# Altium footprint library SensWearComponents.PcbLib: 56 footprints (part 3 of 4)
Each footprint in its own frame and in the unit in brackets; x right, y up, seen from the top. Pads: shape width x height; smd on the part's side, far side on the other; paste and mask are expansions set on the pad; w line width, h text height; cw(c..) or ccw(c..) is an arc to the next point about the centre after c.
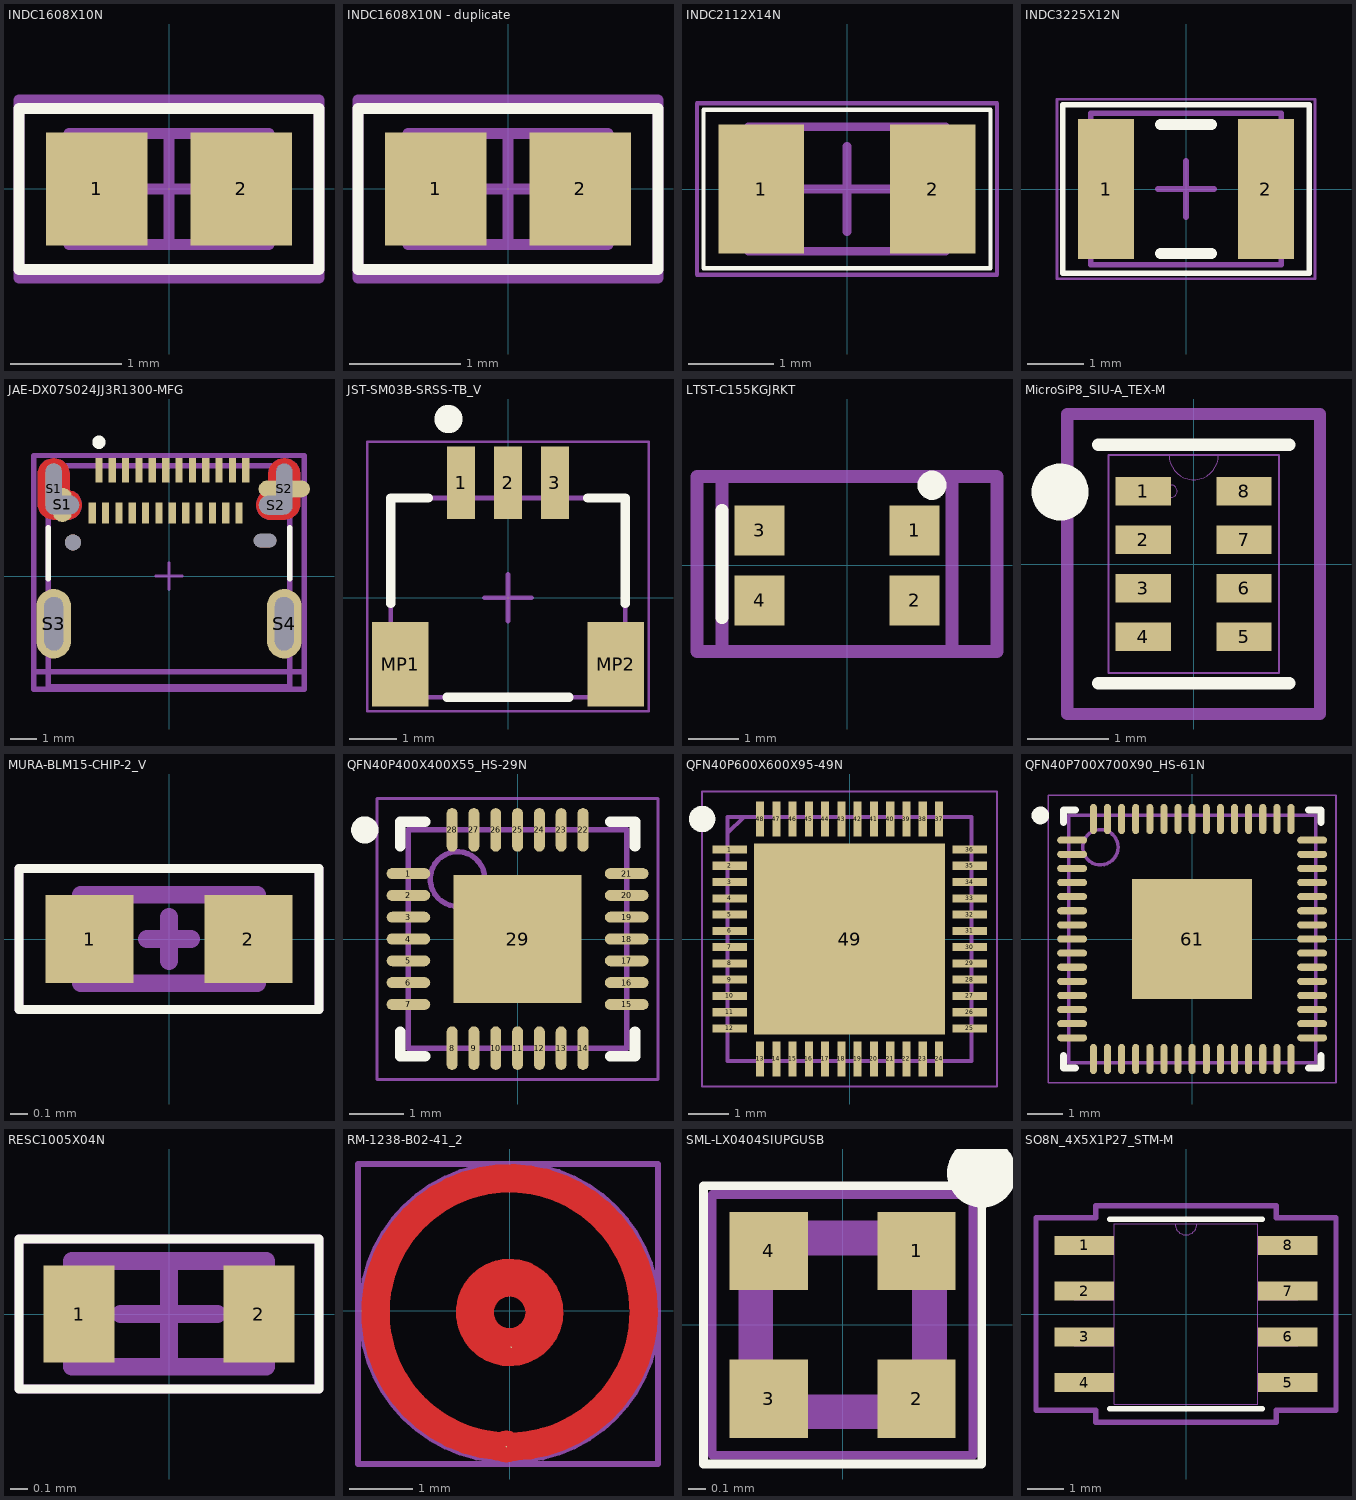
[diagram p2: the footprints below, top view; thin cyan lines are the x and y axes]

## INDC1608X10N [mm] "Chip Inductor, 2-Leads, Body 1.60x0.80mm, IPC Medium Density"
height 1
pads (2):
  rect 0.91x1.02 smd: 1(-0.65,0) 2(0.65,0)
Top Overlay:
  lines w0.1: -1.35,-0.725 -1.35,0.725 1.35,0.725 1.35,-0.725 -1.35,-0.725
Top Assembly:
  lines w0.1: -0.5,0 0.5,0 ; 0,-0.5 0,0.5 ; -1.35,-0.8 1.35,-0.8 1.35,0.8 -1.35,0.8 -1.35,-0.8
Top 3D Body:
  lines w0.1: -0.9,-0.5 -0.9,0.5 0.9,0.5 0.9,-0.5 -0.9,-0.5
Top Courtyard:
  lines w0.1: -1.35,-0.8 1.35,-0.8 1.35,0.8 -1.35,0.8 -1.35,-0.8
  text ".Designator" at -0.425,-0.225 h0.5
3D body "INDC1608X10N.step": height 1, standoff 0, extent -0.9,-0.5 0.9,0.5

## INDC1608X10N - duplicate [mm] "Chip Inductor, 2-Leads, Body 1.60x0.80mm, IPC Medium Density"
height 1
pads (2):
  rect 0.91x1.02 smd: 1(-0.65,0) 2(0.65,0)
Top Overlay:
  lines w0.1: -1.35,-0.725 -1.35,0.725 1.35,0.725 1.35,-0.725 -1.35,-0.725
Top Assembly:
  lines w0.1: -0.5,0 0.5,0 ; 0,-0.5 0,0.5 ; -1.35,-0.8 1.35,-0.8 1.35,0.8 -1.35,0.8 -1.35,-0.8
Top 3D Body:
  lines w0.1: -0.9,-0.5 -0.9,0.5 0.9,0.5 0.9,-0.5 -0.9,-0.5
Top Courtyard:
  lines w0.1: -1.35,-0.8 1.35,-0.8 1.35,0.8 -1.35,0.8 -1.35,-0.8
  text ".Designator" at -0.425,-0.225 h0.5
3D body "INDC1608X10N.step": height 1, standoff 0, extent -0.9,-0.5 0.9,0.5

## INDC2112X14N [mm] "Chip Inductor, 2-Leads, Body 2.10x1.25mm, IPC Medium Density"
height 1.45
pads (2):
  rect 1x1.5 smd: 1(-1,0) 2(1,0)
Top Overlay:
  lines w0.05: -1.675,-0.925 -1.675,0.925 1.675,0.925 1.675,-0.925 -1.675,-0.925
Top Assembly:
  lines w0.05: -1.75,-1 1.75,-1 1.75,1 -1.75,1 -1.75,-1
  lines w0.1: -0.5,0 0.5,0 ; 0,-0.5 0,0.5
Top 3D Body:
  lines w0.1: -1.15,-0.725 -1.15,0.725 1.15,0.725 1.15,-0.725 -1.15,-0.725
Top Courtyard:
  lines w0.05: -1.75,-1 1.75,-1 1.75,1 -1.75,1 -1.75,-1
  text ".Designator" at -0.425,-0.2 h0.4
3D body: height 1.45, standoff 0, extent -0.7,-0.725 0.7,0.725
3D body: height 1.45, standoff 0, extent -1.15,-0.725 -0.7,0.725
3D body: height 1.45, standoff 0, extent 0.7,-0.725 1.15,0.725

## INDC3225X12N [mm] "Chip Inductor, 2-Leads, Body 3.20x2.50mm, IPC Medium Density"
height 1.2
pads (2):
  rect 1x2.5 smd: 1(-1.425,0) 2(1.425,0)
Top Overlay:
  lines w0.1: -2.2,-1.5 -2.2,1.5 2.2,1.5 2.2,-1.5 -2.2,-1.5
  lines w0.2: -0.45,-1.15 0.45,-1.15 ; -0.45,1.15 0.45,1.15
Top Assembly:
  lines w0.05: -2.3,-1.6 -2.3,1.6 2.3,1.6 2.3,-1.6 -2.3,-1.6
  lines w0.1: -0.5,0 0.5,0 ; 0,-0.5 0,0.5
Top 3D Body:
  lines w0.1: -1.7,-1.35 -1.7,1.35 1.7,1.35 1.7,-1.35 -1.7,-1.35
Top Courtyard:
  lines w0.05: -2.3,-1.6 2.3,-1.6 2.3,1.6 -2.3,1.6 -2.3,-1.6
  text ".Designator" at -0.1,-0.1 h1
3D body "INDC3225X12N.step": height 1.2, standoff 0, extent -1.7,-1.35 1.7,1.35

## JAE-DX07S024JJ3R1300-MFG [mm]
pads (32):
  rect 0.27x0.9 smd paste+0 mask+0: A1(-2.625,3.965) A2(-2.125,3.965) A3(-1.625,3.965) A4(-1.125,3.965) A5(-0.625,3.965) A6(-0.125,3.965) A7(0.375,3.965) A8(0.875,3.965) A9(1.375,3.965) A10(1.875,3.965) A11(2.375,3.965) A12(2.875,3.965)
  rect 0.27x0.8 smd paste+0 mask+0: B1(2.625,2.365) B2(2.125,2.365) B3(1.625,2.365) B4(1.125,2.365) B5(0.625,2.365) B6(0.125,2.365) B7(-0.375,2.365) B8(-0.875,2.365) B9(-1.375,2.365) B10(-1.875,2.365) B11(-2.375,2.365) B12(-2.875,2.365)
  rrect100% 0.6x1.9 hole 1.9 slot 0.6 at 0 deg paste-2539.97 mask+0: S1(-4.32,3.265)
  oval 0.725x1.275 hole 0.7 slot 1.25 at 0 deg paste-2539.97 mask+0: S1(-3.995,2.665)
  rrect100% 1.25x0.7 hole 0.7 slot 1.25 at 0 deg paste-2539.97 mask+0: S2(3.995,2.655)
  oval 1.925x0.625 hole 1.9 slot 0.6 at 0 deg paste-2539.97 mask+0: S2(4.32,3.265)
  rrect100% 1.3x2.6 hole 2 slot 0.7 at 0 deg paste-2539.97 mask+0: S3(-4.32,-1.785) S4(4.32,-1.785)
  round 0.6 hole 0.6 unplated paste-2539.97 mask+0: ""(-3.6,1.265)
  rrect100% 0.85x0.5 hole 0.5 slot 0.85 at 0 deg unplated paste-2539.97 mask+0: ""(3.6,1.33)
Top Layer:
  region: -4.32,2.115 -3.7,2.115 -3.655,2.125 -3.568,2.16 -3.489,2.21 -3.42,2.271 -3.362,2.344 -3.316,2.426 -3.285,2.513 -3.27,2.605 -3.27,2.652 -3.27,2.653 -3.27,2.657 -3.27,2.66 -3.27,2.663 -3.27,2.665 -3.269,2.713 -3.285,2.809 -3.316,2.9 -3.364,2.985 -3.425,3.06 -3.498,3.123 -3.582,3.172 -3.672,3.206 -3.72,3.215 -3.72,3.815 -3.72,3.854 -3.73,3.932 -3.751,4.008 -3.781,4.081 -3.82,4.149 -3.868,4.211 -3.924,4.267 -3.986,4.315 -4.054,4.354 -4.127,4.384 -4.203,4.405 -4.281,4.415 -4.32,4.415 -4.359,4.415 -4.437,4.405 -4.513,4.384 -4.586,4.354 -4.654,4.315 -4.716,4.267 -4.772,4.211 -4.82,4.149 -4.859,4.081 -4.889,4.008 -4.91,3.932 -4.92,3.854 -4.92,3.815 -4.92,2.715 -4.92,2.676 -4.91,2.598 -4.889,2.522 -4.859,2.449 -4.82,2.381 -4.772,2.319 -4.716,2.263 -4.654,2.215 -4.586,2.176 -4.513,2.146 -4.437,2.125 -4.359,2.115
  region: 3.27,2.652 3.27,2.605 3.285,2.513 3.316,2.426 3.362,2.344 3.42,2.271 3.489,2.21 3.568,2.16 3.655,2.125 3.7,2.115 4.32,2.115 4.359,2.115 4.437,2.125 4.513,2.146 4.586,2.176 4.654,2.215 4.716,2.263 4.772,2.319 4.82,2.381 4.859,2.449 4.889,2.522 4.91,2.598 4.92,2.676 4.92,2.715 4.92,3.815 4.92,3.862 4.905,3.955 4.876,4.045 4.833,4.129 4.778,4.206 4.711,4.273 4.634,4.328 4.55,4.371 4.46,4.4 4.367,4.415 4.273,4.415 4.18,4.4 4.09,4.371 4.006,4.328 3.929,4.273 3.862,4.206 3.807,4.129 3.764,4.045 3.735,3.955 3.72,3.862 3.72,3.815 3.72,3.215 3.672,3.206 3.582,3.172 3.498,3.123 3.425,3.06 3.364,2.985 3.316,2.9 3.285,2.809 3.269,2.713 3.27,2.665 3.27,2.663 3.27,2.66 3.27,2.657 3.27,2.653
Bottom Layer:
  region: -4.32,2.115 -3.7,2.115 -3.655,2.125 -3.568,2.16 -3.489,2.21 -3.42,2.271 -3.362,2.344 -3.316,2.426 -3.285,2.513 -3.27,2.605 -3.27,2.652 -3.27,2.653 -3.27,2.657 -3.27,2.66 -3.27,2.663 -3.27,2.665 -3.269,2.713 -3.285,2.809 -3.316,2.9 -3.364,2.985 -3.425,3.06 -3.498,3.123 -3.582,3.172 -3.672,3.206 -3.72,3.215 -3.72,3.815 -3.72,3.854 -3.73,3.932 -3.751,4.008 -3.781,4.081 -3.82,4.149 -3.868,4.211 -3.924,4.267 -3.986,4.315 -4.054,4.354 -4.127,4.384 -4.203,4.405 -4.281,4.415 -4.32,4.415 -4.359,4.415 -4.437,4.405 -4.513,4.384 -4.586,4.354 -4.654,4.315 -4.716,4.267 -4.772,4.211 -4.82,4.149 -4.859,4.081 -4.889,4.008 -4.91,3.932 -4.92,3.854 -4.92,3.815 -4.92,2.715 -4.92,2.676 -4.91,2.598 -4.889,2.522 -4.859,2.449 -4.82,2.381 -4.772,2.319 -4.716,2.263 -4.654,2.215 -4.586,2.176 -4.513,2.146 -4.437,2.125 -4.359,2.115
  region: 3.27,2.652 3.27,2.605 3.285,2.513 3.316,2.426 3.362,2.344 3.42,2.271 3.489,2.21 3.568,2.16 3.655,2.125 3.7,2.115 4.32,2.115 4.359,2.115 4.437,2.125 4.513,2.146 4.586,2.176 4.654,2.215 4.716,2.263 4.772,2.319 4.82,2.381 4.859,2.449 4.889,2.522 4.91,2.598 4.92,2.676 4.92,2.715 4.92,3.815 4.92,3.862 4.905,3.955 4.876,4.045 4.833,4.129 4.778,4.206 4.711,4.273 4.634,4.328 4.55,4.371 4.46,4.4 4.367,4.415 4.273,4.415 4.18,4.4 4.09,4.371 4.006,4.328 3.929,4.273 3.862,4.206 3.807,4.129 3.764,4.045 3.735,3.955 3.72,3.862 3.72,3.815 3.72,3.215 3.672,3.206 3.582,3.172 3.498,3.123 3.425,3.06 3.364,2.985 3.316,2.9 3.285,2.809 3.269,2.713 3.27,2.665 3.27,2.663 3.27,2.66 3.27,2.657 3.27,2.653
Top Overlay:
  circle w0.25: c-2.625,5.015 r0.125
  lines w0.2: -4.52,-0.11 -4.52,1.805 ; 4.52,-0.11 4.52,1.805
Mechanical 7:
  lines w0.2: -5.07,-4.235 -5.07,4.515 5.07,4.515 5.07,-4.235 -5.07,-4.235
Mechanical 9:
  lines w0.2: -5.07,-4.235 -5.07,4.515 5.07,4.515 5.07,-4.235 -5.07,-4.235
  text ".Designator" at 0.101,0.233 h0.5
Mechanical 10:
  lines w0.1: -0.5,0 0.5,0 ; 0,-0.5 0,0.5
Mechanical 13:
  lines w0.2: -5.07,-3.585 5.07,-3.585 ; -4.52,-4.135 -4.52,4.135 4.52,4.135 4.52,-4.135 -4.52,-4.135
3D body "Conn_JAE_Electronics_DX07S024JJ3R1300_eec.STEP": height 3.29, standoff -0.75, extent -4.47,-4.085 4.47,4.085

## JST-SM03B-SRSS-TB_V [mm] "SMD, 3-Leads, Body 5x4.25mm, Pitch 1mm"
height 2.9
pads (5):
  rect 0.6x1.55 smd: 1(-1,2.45) 2(0,2.45) 3(1,2.45)
  rect 1.2x1.8 smd: MP1(-2.3,-1.425) MP2(2.3,-1.425)
Top Overlay:
  circle w0.5: c-1.27,3.81 r0.05
  lines w0.2: -2.5,-0.125 -2.5,2.125 -1.7,2.125 ; -1.3,-2.125 1.3,-2.125 ; 1.7,2.125 2.5,2.125 2.5,-0.125
Mechanical 13:
  lines w0.1: -2.5,-2.125 -2.5,2.125 2.5,2.125 2.5,-2.125 -2.5,-2.125
Mechanical 15:
  lines w0.05: -3,-2.425 -3,3.325 3,3.325 3,-2.425 -3,-2.425
  lines w0.1: -0.5,0 0.5,0 ; 0,-0.5 0,0.5
3D body "SM03B-SRSS.stp": height 3.25, standoff 0.3, extent -2.5,-2.125 2.5,2.825

## LTST-C155KGJRKT [mm]
pads (4):
  rect 1x1 smd: 1(1.35,0.7) 2(1.35,-0.7) 3(-1.75,0.7) 4(-1.75,-0.7)
Top Overlay:
  circle w0.3: c1.7,1.6 r0.141
  lines w0.254: -2.5,-1.05 -2.5,1.1
Mechanical 15:
  lines w0.254: -2.5,-1.725 -2.5,1.775 2.1,1.775 2.1,-1.725 -2.5,-1.725
Mechanical 29:
  lines w0.254: -3,-1.725 3,-1.725 3,1.775 -3,1.775 -3,-1.725
  text ".Designator" at -2.575,-0.239 h0.7
3D body "LTST-C155KGJRKT.STEP": height 1.1, standoff 0, extent -1.775,-1.3 1.425,1.4

## MicroSiP8_SIU-A_TEX-M [mm]
pads (8):
  rect 0.684x0.355 smd paste+0 mask+0: 1(-0.622,0.9) 2(-0.622,0.3) 3(-0.622,-0.3) 4(-0.622,-0.9) 5(0.622,-0.9) 6(0.622,-0.3) 7(0.622,0.3) 8(0.622,0.9)
Top Overlay:
  circle w0.5: c-1.651,0.889 r0.102
  lines w0.152: -1.181,-1.473 1.181,-1.473 ; -1.181,1.473 1.181,1.473
Top Assembly:
  lines w0.152: -1.562,-1.854 -1.562,-1.585 -1.562,1.585 -1.562,1.854 1.562,1.854 1.562,1.585 1.562,-1.585 1.562,-1.854 -1.562,-1.854
Top 3D Body:
  circle w0: c-0.28,0.9 r0.076
  lines w0: -0.305,1.346 ccw(c0,1.346) 0.305,1.346
  lines w0.025: -1.054,-1.346 1.054,-1.346 1.054,1.346 -1.054,1.346 -1.054,-1.346
Top Courtyard:
  text ".Designator" at -2.999,-0.2 h0.6
3D body "MicroSiP8_SIU-A_TEX.step": height 1.2, standoff 0, extent -1.054,-1.346 1.054,1.346

## MURA-BLM15-CHIP-2_V [mm] "Chip Ferrite Bead, 2-Leads, Body 1x0.5mm"
height 0.55
pads (2):
  rect 0.5x0.5 smd: 1(-0.45,0) 2(0.45,0)
Top Overlay:
  lines w0.05: -0.85,-0.4 0.85,-0.4 0.85,0.4 -0.85,0.4 -0.85,-0.4
Mechanical 13:
  lines w0.1: -0.5,-0.25 0.5,-0.25 0.5,0.25 -0.5,0.25 -0.5,-0.25
Mechanical 15:
  lines w0.05: -0.85,-0.4 0.85,-0.4 0.85,0.4 -0.85,0.4 -0.85,-0.4
  lines w0.1: -0.125,0 0.125,0 ; 0,-0.125 0,0.125
Mechanical 29:
  lines w0.05: -0.85,-0.4 0.85,-0.4 0.85,0.4 -0.85,0.4 -0.85,-0.4
  text ".Designator" at -0.65,-0.142 h0.4
3D body "RESC1005X06L.step": height 0.55, standoff 0, extent -0.525,-0.275 0.525,0.275

## QFN40P400X400X55_HS-29N [mm] "QFN, 28-Leads, Body 4.00x4.00mm, Pitch 0.40mm, Thermal Pad 2.35x2.35mm, IPC Medium Density"
height 0.55
pads (29):
  oval 0.8x0.2 smd: 1(-2,1.2) 2(-2,0.8) 3(-2,0.4) 4(-2,0) 5(-2,-0.4) 6(-2,-0.8) 7(-2,-1.2) 15(2,-1.2) 16(2,-0.8) 17(2,-0.4) 18(2,0) 19(2,0.4) 20(2,0.8) 21(2,1.2)
  oval 0.2x0.8 smd: 8(-1.2,-2) 9(-0.8,-2) 10(-0.4,-2) 11(0,-2) 12(0.4,-2) 13(0.8,-2) 14(1.2,-2) 22(1.2,2) 23(0.8,2) 24(0.4,2) 25(0,2) 26(-0.4,2) 27(-0.8,2) 28(-1.2,2)
  rect 2.35x2.35 smd: 29(0,0)
Top Overlay:
  circle w0.25: c-2.8,2 r0.125
  lines w0.2: -2.15,-1.7 -2.15,-2.15 -1.7,-2.15 ; -2.15,1.7 -2.15,2.15 -1.7,2.15 ; 1.7,-2.15 2.15,-2.15 2.15,-1.7 ; 1.7,2.15 2.15,2.15 2.15,1.7
Top Assembly:
  circle w0.1: c-1.1,1.1 r0.5
  lines w0.1: -2,-2 2,-2 2,2 -2,2 -2,-2
Top Courtyard:
  lines w0.05: -2.575,-2.575 2.575,-2.575 2.575,2.575 -2.575,2.575 -2.575,-2.575
  lines w0.1: -0.5,0 0.5,0 ; 0,-0.5 0,0.5
3D body "QFN40P400X400X55_HS-29N.step": height 0.55, standoff 0, extent -2.01,-2.01 2.01,2.01

## QFN40P600X600X95-49N [mm]
pads (49):
  rect 0.85x0.2 smd: 1(-2.95,2.2) 2(-2.95,1.8) 3(-2.95,1.4) 4(-2.95,1) 5(-2.95,0.6) 6(-2.95,0.2) 7(-2.95,-0.2) 8(-2.95,-0.6) 9(-2.95,-1) 10(-2.95,-1.4) 11(-2.95,-1.8) 12(-2.95,-2.2) 25(2.95,-2.2) 26(2.95,-1.8) 27(2.95,-1.4) 28(2.95,-1) 29(2.95,-0.6) 30(2.95,-0.2) 31(2.95,0.2) 32(2.95,0.6) 33(2.95,1) 34(2.95,1.4) 35(2.95,1.8) 36(2.95,2.2)
  rect 0.2x0.85 smd: 13(-2.2,-2.95) 14(-1.8,-2.95) 15(-1.4,-2.95) 16(-1,-2.95) 17(-0.6,-2.95) 18(-0.2,-2.95) 19(0.2,-2.95) 20(0.6,-2.95) 21(1,-2.95) 22(1.4,-2.95) 23(1.8,-2.95) 24(2.2,-2.95) 37(2.2,2.95) 38(1.8,2.95) 39(1.4,2.95) 40(1,2.95) 41(0.6,2.95) 42(0.2,2.95) 43(-0.2,2.95) 44(-0.6,2.95) 45(-1,2.95) 46(-1.4,2.95) 47(-1.8,2.95) 48(-2.2,2.95)
  rect 4.7x4.7 smd paste-400: 49(0,0)
Top Overlay:
  circle w0.4: c-3.625,2.95 r0.125
Top Paste:
  region: -2.2,2.2 -0.8,2.2 -0.8,0.8 -2.2,0.8
  region: -0.7,2.2 0.7,2.2 0.7,0.8 -0.7,0.8
  region: 0.8,2.2 2.2,2.2 2.2,0.8 0.8,0.8
  region: -2.2,0.7 -0.8,0.7 -0.8,-0.7 -2.2,-0.7
  region: -0.7,0.7 0.7,0.7 0.7,-0.7 -0.7,-0.7
  region: 0.8,0.7 2.2,0.7 2.2,-0.7 0.8,-0.7
  region: -2.2,-0.8 -0.8,-0.8 -0.8,-2.2 -2.2,-2.2
  region: -0.7,-0.8 0.7,-0.8 0.7,-2.2 -0.7,-2.2
  region: 0.8,-0.8 2.2,-0.8 2.2,-2.2 0.8,-2.2
Top Assembly:
  lines w0.05: -3.625,-3.625 -3.625,3.625 3.625,3.625 3.625,-3.625 -3.625,-3.625
Top 3D Body:
  lines w0.1: -3,2.6 -2.6,3 ; -3,-3 -3,3 3,3 3,-3 -3,-3
Top Courtyard:
  text ".Designator" at -3.499,-0.233 h0.7
3D body "NRF54L15-QFAA-R.stp": height 0.95, standoff 0, extent -3.05,-3.05 3.05,3.05

## QFN40P700X700X90_HS-61N [mm] "QFN, 60-Leads, Body 7.00x7.00mm, Pitch 0.40mm, Thermal Pad 3.40x3.40mm, IPC Medium Density"
height 0.9
pads (61):
  oval 0.85x0.2 smd: 1(-3.4,2.8) 2(-3.4,2.4) 3(-3.4,2) 4(-3.4,1.6) 5(-3.4,1.2) 6(-3.4,0.8) 7(-3.4,0.4) 8(-3.4,0) 9(-3.4,-0.4) 10(-3.4,-0.8) 11(-3.4,-1.2) 12(-3.4,-1.6) 13(-3.4,-2) 14(-3.4,-2.4) 15(-3.4,-2.8) 31(3.4,-2.8) 32(3.4,-2.4) 33(3.4,-2) 34(3.4,-1.6) 35(3.4,-1.2) 36(3.4,-0.8) 37(3.4,-0.4) 38(3.4,0) 39(3.4,0.4) 40(3.4,0.8) 41(3.4,1.2) 42(3.4,1.6) 43(3.4,2) 44(3.4,2.4) 45(3.4,2.8)
  oval 0.2x0.85 smd: 16(-2.8,-3.4) 17(-2.4,-3.4) 18(-2,-3.4) 19(-1.6,-3.4) 20(-1.2,-3.4) 21(-0.8,-3.4) 22(-0.4,-3.4) 23(0,-3.4) 24(0.4,-3.4) 25(0.8,-3.4) 26(1.2,-3.4) 27(1.6,-3.4) 28(2,-3.4) 29(2.4,-3.4) 30(2.8,-3.4) 46(2.8,3.4) 47(2.4,3.4) 48(2,3.4) 49(1.6,3.4) 50(1.2,3.4) 51(0.8,3.4) 52(0.4,3.4) 53(0,3.4) 54(-0.4,3.4) 55(-0.8,3.4) 56(-1.2,3.4) 57(-1.6,3.4) 58(-2,3.4) 59(-2.4,3.4) 60(-2.8,3.4)
  rect 3.4x3.4 smd: 61(0,0)
Top Overlay:
  circle w0.25: c-4.3,3.5 r0.125
  lines w0.2: -3.65,-3.3 -3.65,-3.65 -3.3,-3.65 ; -3.65,3.3 -3.65,3.65 -3.3,3.65 ; 3.3,-3.65 3.65,-3.65 3.65,-3.3 ; 3.3,3.65 3.65,3.65 3.65,3.3
Top Assembly:
  circle w0.1: c-2.6,2.6 r0.5
  lines w0.1: -3.5,-3.5 3.5,-3.5 3.5,3.5 -3.5,3.5 -3.5,-3.5
Top Courtyard:
  lines w0.05: -4.075,-4.075 4.075,-4.075 4.075,4.075 -4.075,4.075 -4.075,-4.075
  lines w0.1: -0.5,0 0.5,0 ; 0,-0.5 0,0.5
3D body "QFN40P700X700X90_HS-61N.step": height 0.9, standoff 0, extent -3.51,-3.51 3.51,3.51

## RESC1005X04N [mm] "Chip Resistor, 2-Leads, Body 1.00x0.50mm, IPC Medium Density"
height 0.4
pads (2):
  rect 0.4x0.55 smd: 1(-0.51,0) 2(0.51,0)
Top Overlay:
  lines w0.05: -0.85,-0.425 0.85,-0.425 0.85,0.425 -0.85,0.425 -0.85,-0.425
Mechanical 13:
  lines w0.1: -0.55,-0.3 -0.55,0.3 0.55,0.3 0.55,-0.3 -0.55,-0.3
Mechanical 15:
  lines w0.05: -0.85,-0.425 -0.85,0.425 0.85,0.425 0.85,-0.425 -0.85,-0.425
  lines w0.1: -0.275,0 0.275,0 ; 0,-0.275 0,0.275
Mechanical 29:
  lines w0.05: -0.85,-0.425 -0.85,0.425 0.85,0.425 0.85,-0.425 -0.85,-0.425
  text ".Designator" at -0.799,-0.121 h0.5
3D body "RESC1005X06N.step": height 0.6, standoff 0, extent -0.55,-0.3 0.55,0.3

## RM-1238-B02-41_2 [mm]
pads (2):
  round 0.025 smd: 1(0.025,-0.575) 2(-0.05,-2.15)
Top Layer:
  circle w0.45: c0,-0.025 r2.125
  circle w0.6: c0,-0.025 r0.55
  region: -0.05,-2.4 -0.075,-2.4 -0.123,-2.39 -0.168,-2.372 -0.209,-2.344 -0.244,-2.309 -0.272,-2.268 -0.29,-2.223 -0.3,-2.175 -0.3,-2.15 -0.3,-2.125 -0.29,-2.077 -0.272,-2.032 -0.244,-1.991 -0.209,-1.956 -0.168,-1.928 -0.123,-1.91 -0.075,-1.9 -0.05,-1.9 -0.025,-1.9 0.023,-1.91 0.068,-1.928 0.109,-1.956 0.144,-1.991 0.172,-2.032 0.19,-2.077 0.2,-2.125 0.2,-2.15 0.2,-2.175 0.19,-2.223 0.172,-2.268 0.144,-2.309 0.109,-2.344 0.068,-2.372 0.023,-2.39 -0.025,-2.4
  region: 0.025,-0.825 0,-0.825 -0.048,-0.815 -0.093,-0.797 -0.134,-0.769 -0.169,-0.734 -0.197,-0.693 -0.215,-0.648 -0.225,-0.6 -0.225,-0.575 -0.225,-0.55 -0.215,-0.502 -0.197,-0.457 -0.169,-0.416 -0.134,-0.381 -0.093,-0.353 -0.048,-0.335 0,-0.325 0.025,-0.325 0.05,-0.325 0.098,-0.335 0.143,-0.353 0.184,-0.381 0.219,-0.416 0.247,-0.457 0.265,-0.502 0.275,-0.55 0.275,-0.575 0.275,-0.6 0.265,-0.648 0.247,-0.693 0.219,-0.734 0.184,-0.769 0.143,-0.797 0.098,-0.815 0.05,-0.825
Top Assembly:
  circle w0.1: c0,-0.025 r2.35
Mechanical 29:
  lines w0.1: -2.4,-2.425 2.35,-2.425 2.35,2.325 -2.4,2.325 -2.4,-2.425
3D body: height 1.5, standoff 0, extent -2.25,-2.275 2.25,2.225

## SML-LX0404SIUPGUSB [mm]
pads (4):
  rect 0.45x0.45 smd: 1(0.425,0.425) 2(0.425,-0.425) 3(-0.425,-0.425) 4(-0.425,0.425)
Top Overlay:
  circle w0.3: c0.8,0.875 r0.05
  lines w0.05: -0.8,-0.8 -0.8,0.8 0.8,0.8 0.8,-0.8 -0.8,-0.8
Top Assembly:
  lines w0.05: -0.75,-0.75 0.75,-0.75 0.75,0.75 -0.75,0.75 -0.75,-0.75
Top 3D Body:
  lines w0.2: -0.5,-0.5 0.5,-0.5 0.5,0.5 -0.5,0.5 -0.5,-0.5
Top Courtyard:
  lines w0.05: -0.75,-0.75 0.75,-0.75 0.75,0.75 -0.75,0.75 -0.75,-0.75
  text ".Designator" at -0.375,-0.175 h0.4
3D body "SML-LX0404SIUPGUSB.stp": height 0.26, standoff 0, extent -0.5,-0.5 0.5,0.5

## SO8N_4X5X1P27_STM-M [mil]
pads (8):
  rect 65.5x21 smd paste+0 mask+0: 1(-111.25,75) 2(-111.25,25) 3(-111.25,-25) 4(-111.25,-75) 5(111.25,-75) 6(111.25,-25) 7(111.25,25) 8(111.25,75)
Top Overlay:
  lines w6: -83.5,-103.5 83.5,-103.5 ; -83.5,103.5 83.5,103.5
Top Assembly:
  lines w6: -164,-105.5 -98.5,-105.5 -98.5,-118.5 98.5,-118.5 98.5,-105.5 164,-105.5 164,105.5 98.5,105.5 98.5,118.5 -98.5,118.5 -98.5,105.5 -164,105.5 -164,-105.5
Top 3D Body:
  lines w1: -12,98.5 ccw(c0,98.5) 12,98.5 ; -122,-84.5 -78.5,-84.5 -78.5,-65.5 -122,-65.5 -122,-84.5 ; -122,-34.5 -78.5,-34.5 -78.5,-15.5 -122,-15.5 -122,-34.5 ; -122,15.5 -78.5,15.5 -78.5,34.5 -122,34.5 -122,15.5 ; -122,65.5 -78.5,65.5 -78.5,84.5 -122,84.5 -122,65.5 ; -78.5,-98.5 -78.5,98.5 78.5,98.5 78.5,-98.5 -78.5,-98.5 ; 78.5,-84.5 122,-84.5 122,-65.5 78.5,-65.5 78.5,-84.5 ; 78.5,-34.5 122,-34.5 122,-15.5 78.5,-15.5 78.5,-34.5 ; 78.5,15.5 122,15.5 122,34.5 78.5,34.5 78.5,15.5 ; 78.5,65.5 122,65.5 122,84.5 78.5,84.5 78.5,65.5
Top Courtyard:
  text ".Designator" at -5,-5 h50
3D body "SO8N_4X5X1P27_STM.step": height 69.09, standoff 0, extent -122.01,-98.5 122.01,98.5